# Altium footprint library PcbLib1.PcbLib: 40 footprints (part 2 of 3)
Each footprint in its own frame and in the unit in brackets; x right, y up, seen from the top. Pads: shape width x height; smd on the part's side, far side on the other; paste and mask are expansions set on the pad; w line width, h text height; cw(c..) or ccw(c..) is an arc to the next point about the centre after c.
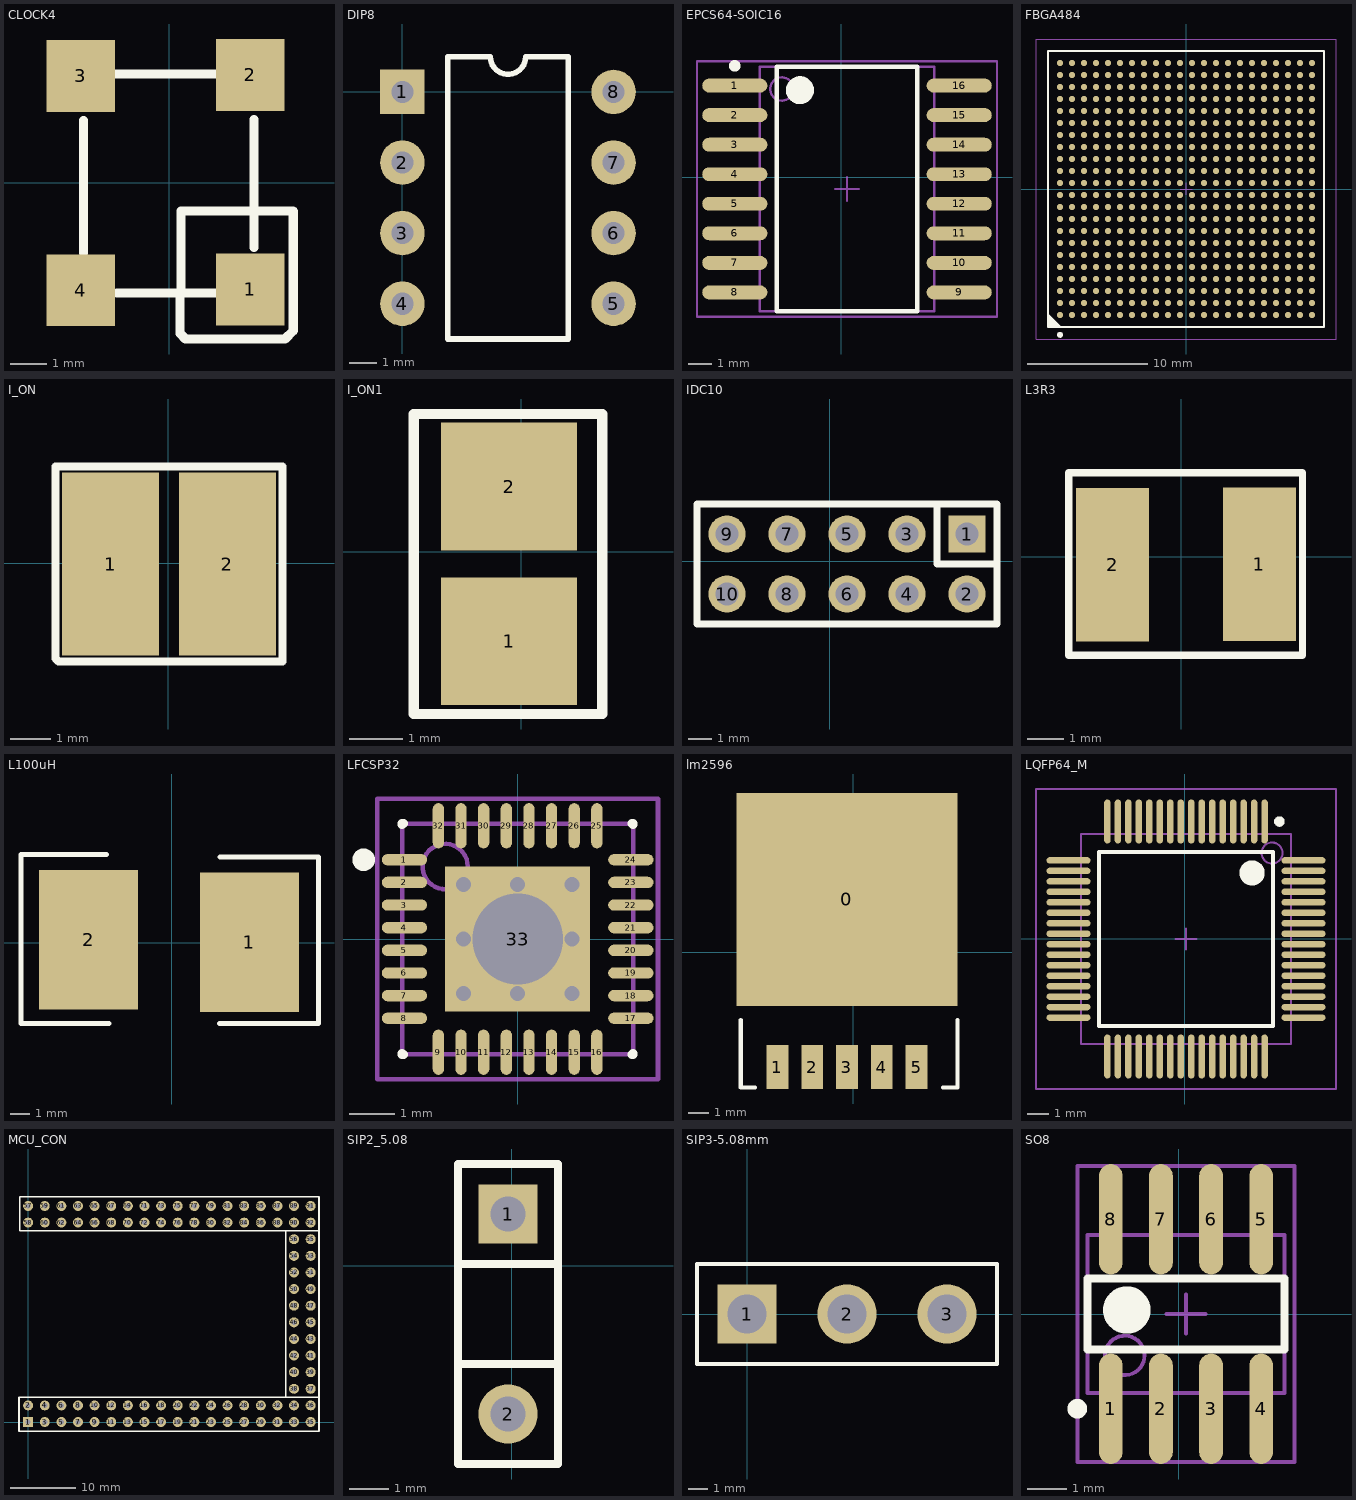
[diagram p1: the footprints below, top view; thin cyan lines are the x and y axes]

## CLOCK4 [mm]
pads (4):
  rect 1.905x2 smd: 1(2.263,-2.962) 2(2.263,3.007) 3(-2.461,2.981) 4(-2.461,-2.988)
Top Overlay:
  lines w0.254: -2.385,-1.946 -2.385,1.737 ; -1.483,3.032 -0.508,3.032 ; -1.457,-3.064 -1.191,-3.064 1.349,-3.064 ; -1.191,3.032 1.349,3.032 ; 0.305,-3.064 0.305,-4.191 0.457,-4.343 3.226,-4.343 3.454,-4.115 3.454,-0.787 3.445,-0.778 1.981,-0.778 ; 0.333,-3.064 0.333,-0.778 2.365,-0.778 ; 2.365,-1.794 2.365,1.762

## DIP8 [mm]
pads (8):
  rect 1.6x1.6 hole 0.8: 1(0,0)
  round 1.6 hole 0.8: 2(0,-2.54) 3(0,-5.08) 4(0,-7.62) 5(7.6,-7.62) 6(7.6,-5.08) 7(7.6,-2.54) 8(7.6,0)
Top Overlay:
  lines w0.2: 1.635,-8.89 1.635,1.27 3.165,1.27 ccw(c3.8,1.27) 4.435,1.27 5.965,1.27 5.965,-8.89 1.635,-8.89

## EPCS64-SOIC16 [mm]
pads (16):
  oval 2.8x0.6 smd: 1(-4.571,3.937) 2(-4.571,2.667) 3(-4.571,1.397) 4(-4.571,0.127) 5(-4.571,-1.143) 6(-4.571,-2.413) 7(-4.571,-3.683) 8(-4.571,-4.953) 9(5.079,-4.953) 10(5.079,-3.683) 11(5.079,-2.413) 12(5.079,-1.143) 13(5.079,0.127) 14(5.079,1.397) 15(5.079,2.667) 16(5.079,3.937)
Top Overlay:
  circle w0.6: c-1.771,3.742 r0.3
  circle w0.25: c-4.571,4.787 r0.125
  lines w0.2: -2.771,-5.758 3.279,-5.758 3.279,4.742 -2.771,4.742 -2.771,-5.758
Mechanical 13:
  circle w0.1: c-2.546,3.792 r0.5
  lines w0.1: -3.496,-5.758 4.004,-5.758 4.004,4.742 -3.496,4.742 -3.496,-5.758
Mechanical 15:
  lines w0.1: -0.246,-0.508 0.754,-0.508 ; 0.254,-1.008 0.254,-0.008 ; -6.196,-6.008 6.704,-6.008 6.704,4.992 -6.196,4.992 -6.196,-6.008
3D body: height 2.65, standoff 0.2, extent -3.496,-5.758 4.004,4.742

## FBGA484 [mm]
pads (484):
  round 0.5 smd: A1(-10.5,-10.5) A2(-10.5,-9.5) A3(-10.5,-8.5) A4(-10.5,-7.5) A5(-10.5,-6.5) A6(-10.5,-5.5) A7(-10.5,-4.5) A8(-10.5,-3.5) A9(-10.5,-2.5) A10(-10.5,-1.5) A11(-10.5,-0.5) A12(-10.5,0.5) A13(-10.5,1.5) A14(-10.5,2.5) A15(-10.5,3.5) A16(-10.5,4.5) A17(-10.5,5.5) A18(-10.5,6.5) A19(-10.5,7.5) A20(-10.5,8.5) A21(-10.5,9.5) A22(-10.5,10.5) AA1(9.5,-10.5) AA2(9.5,-9.5) AA3(9.5,-8.5) AA4(9.5,-7.5) AA5(9.5,-6.5) AA6(9.5,-5.5) AA7(9.5,-4.5) AA8(9.5,-3.5) AA9(9.5,-2.5) AA10(9.5,-1.5) AA11(9.5,-0.5) AA12(9.5,0.5) AA13(9.5,1.5) AA14(9.5,2.5) AA15(9.5,3.5) AA16(9.5,4.5) AA17(9.5,5.5) AA18(9.5,6.5) AA19(9.5,7.5) AA20(9.5,8.5) AA21(9.5,9.5) AA22(9.5,10.5) AB1(10.5,-10.5) AB2(10.5,-9.5) AB3(10.5,-8.5) AB4(10.5,-7.5) AB5(10.5,-6.5) AB6(10.5,-5.5) AB7(10.5,-4.5) AB8(10.5,-3.5) AB9(10.5,-2.5) AB10(10.5,-1.5) AB11(10.5,-0.5) AB12(10.5,0.5) AB13(10.5,1.5) AB14(10.5,2.5) AB15(10.5,3.5) AB16(10.5,4.5) AB17(10.5,5.5) AB18(10.5,6.5) AB19(10.5,7.5) AB20(10.5,8.5) AB21(10.5,9.5) AB22(10.5,10.5) B1(-9.5,-10.5) B2(-9.5,-9.5) B3(-9.5,-8.5) B4(-9.5,-7.5) B5(-9.5,-6.5) B6(-9.5,-5.5) B7(-9.5,-4.5) B8(-9.5,-3.5) B9(-9.5,-2.5) B10(-9.5,-1.5) B11(-9.5,-0.5) B12(-9.5,0.5) B13(-9.5,1.5) B14(-9.5,2.5) B15(-9.5,3.5) B16(-9.5,4.5) B17(-9.5,5.5) B18(-9.5,6.5) B19(-9.5,7.5) B20(-9.5,8.5) B21(-9.5,9.5) B22(-9.5,10.5) C1(-8.5,-10.5) C2(-8.5,-9.5) C3(-8.5,-8.5) C4(-8.5,-7.5) C5(-8.5,-6.5) C6(-8.5,-5.5) C7(-8.5,-4.5) C8(-8.5,-3.5) C9(-8.5,-2.5) C10(-8.5,-1.5) C11(-8.5,-0.5) C12(-8.5,0.5) C13(-8.5,1.5) C14(-8.5,2.5) C15(-8.5,3.5) C16(-8.5,4.5) C17(-8.5,5.5) C18(-8.5,6.5) C19(-8.5,7.5) C20(-8.5,8.5) C21(-8.5,9.5) C22(-8.5,10.5) D1(-7.5,-10.5) D2(-7.5,-9.5) D3(-7.5,-8.5) D4(-7.5,-7.5) D5(-7.5,-6.5) D6(-7.5,-5.5) D7(-7.5,-4.5) D8(-7.5,-3.5) D9(-7.5,-2.5) D10(-7.5,-1.5) D11(-7.5,-0.5) D12(-7.5,0.5) D13(-7.5,1.5) D14(-7.5,2.5) D15(-7.5,3.5) D16(-7.5,4.5) D17(-7.5,5.5) D18(-7.5,6.5) D19(-7.5,7.5) D20(-7.5,8.5) D21(-7.5,9.5) D22(-7.5,10.5) E1(-6.5,-10.5) E2(-6.5,-9.5) E3(-6.5,-8.5) E4(-6.5,-7.5) E5(-6.5,-6.5) E6(-6.5,-5.5) E7(-6.5,-4.5) E8(-6.5,-3.5) E9(-6.5,-2.5) E10(-6.5,-1.5) E11(-6.5,-0.5) E12(-6.5,0.5) E13(-6.5,1.5) E14(-6.5,2.5) E15(-6.5,3.5) E16(-6.5,4.5) E17(-6.5,5.5) E18(-6.5,6.5) E19(-6.5,7.5) E20(-6.5,8.5) E21(-6.5,9.5) E22(-6.5,10.5) F1(-5.5,-10.5) F2(-5.5,-9.5) F3(-5.5,-8.5) F4(-5.5,-7.5) F5(-5.5,-6.5) F6(-5.5,-5.5) F7(-5.5,-4.5) F8(-5.5,-3.5) F9(-5.5,-2.5) F10(-5.5,-1.5) F11(-5.5,-0.5) F12(-5.5,0.5) F13(-5.5,1.5) F14(-5.5,2.5) F15(-5.5,3.5) F16(-5.5,4.5) F17(-5.5,5.5) F18(-5.5,6.5) F19(-5.5,7.5) F20(-5.5,8.5) F21(-5.5,9.5) F22(-5.5,10.5) G1(-4.5,-10.5) G2(-4.5,-9.5) G3(-4.5,-8.5) G4(-4.5,-7.5) G5(-4.5,-6.5) G6(-4.5,-5.5) G7(-4.5,-4.5) G8(-4.5,-3.5) G9(-4.5,-2.5) G10(-4.5,-1.5) G11(-4.5,-0.5) G12(-4.5,0.5) G13(-4.5,1.5) G14(-4.5,2.5) G15(-4.5,3.5) G16(-4.5,4.5) G17(-4.5,5.5) G18(-4.5,6.5) G19(-4.5,7.5) G20(-4.5,8.5) G21(-4.5,9.5) G22(-4.5,10.5) H1(-3.5,-10.5) H2(-3.5,-9.5) H3(-3.5,-8.5) H4(-3.5,-7.5) H5(-3.5,-6.5) H6(-3.5,-5.5) H7(-3.5,-4.5) H8(-3.5,-3.5) H9(-3.5,-2.5) H10(-3.5,-1.5) H11(-3.5,-0.5) H12(-3.5,0.5) H13(-3.5,1.5) H14(-3.5,2.5) H15(-3.5,3.5) H16(-3.5,4.5) H17(-3.5,5.5) H18(-3.5,6.5) H19(-3.5,7.5) H20(-3.5,8.5) H21(-3.5,9.5) H22(-3.5,10.5) J1(-2.5,-10.5) J2(-2.5,-9.5) J3(-2.5,-8.5) J4(-2.5,-7.5) J5(-2.5,-6.5) J6(-2.5,-5.5) J7(-2.5,-4.5) J8(-2.5,-3.5) J9(-2.5,-2.5) J10(-2.5,-1.5) J11(-2.5,-0.5) J12(-2.5,0.5) J13(-2.5,1.5) J14(-2.5,2.5) J15(-2.5,3.5) J16(-2.5,4.5) J17(-2.5,5.5) J18(-2.5,6.5) J19(-2.5,7.5) J20(-2.5,8.5) J21(-2.5,9.5) J22(-2.5,10.5) K1(-1.5,-10.5) K2(-1.5,-9.5) K3(-1.5,-8.5) K4(-1.5,-7.5) K5(-1.5,-6.5) K6(-1.5,-5.5) K7(-1.5,-4.5) K8(-1.5,-3.5) K9(-1.5,-2.5) K10(-1.5,-1.5) K11(-1.5,-0.5) K12(-1.5,0.5) K13(-1.5,1.5) K14(-1.5,2.5) K15(-1.5,3.5) K16(-1.5,4.5) K17(-1.5,5.5) K18(-1.5,6.5) K19(-1.5,7.5) K20(-1.5,8.5) K21(-1.5,9.5) K22(-1.5,10.5) L1(-0.5,-10.5) L2(-0.5,-9.5) L3(-0.5,-8.5) L4(-0.5,-7.5) L5(-0.5,-6.5) L6(-0.5,-5.5) L7(-0.5,-4.5) L8(-0.5,-3.5) L9(-0.5,-2.5) L10(-0.5,-1.5) L11(-0.5,-0.5) L12(-0.5,0.5) L13(-0.5,1.5) L14(-0.5,2.5) L15(-0.5,3.5) L16(-0.5,4.5) L17(-0.5,5.5) L18(-0.5,6.5) L19(-0.5,7.5) L20(-0.5,8.5) L21(-0.5,9.5) L22(-0.5,10.5) M1(0.5,-10.5) M2(0.5,-9.5) M3(0.5,-8.5) M4(0.5,-7.5) M5(0.5,-6.5) M6(0.5,-5.5) M7(0.5,-4.5) M8(0.5,-3.5) M9(0.5,-2.5) M10(0.5,-1.5) M11(0.5,-0.5) M12(0.5,0.5) M13(0.5,1.5) M14(0.5,2.5) M15(0.5,3.5) M16(0.5,4.5) M17(0.5,5.5) M18(0.5,6.5) M19(0.5,7.5) M20(0.5,8.5) M21(0.5,9.5) M22(0.5,10.5) N1(1.5,-10.5) N2(1.5,-9.5) N3(1.5,-8.5) N4(1.5,-7.5) N5(1.5,-6.5) N6(1.5,-5.5) N7(1.5,-4.5) N8(1.5,-3.5) N9(1.5,-2.5) N10(1.5,-1.5) N11(1.5,-0.5) N12(1.5,0.5) N13(1.5,1.5) N14(1.5,2.5) N15(1.5,3.5) N16(1.5,4.5) N17(1.5,5.5) N18(1.5,6.5) N19(1.5,7.5) N20(1.5,8.5) N21(1.5,9.5) N22(1.5,10.5) P1(2.5,-10.5) P2(2.5,-9.5) P3(2.5,-8.5) P4(2.5,-7.5) P5(2.5,-6.5) P6(2.5,-5.5) P7(2.5,-4.5) P8(2.5,-3.5) P9(2.5,-2.5) P10(2.5,-1.5) P11(2.5,-0.5) P12(2.5,0.5) P13(2.5,1.5) P14(2.5,2.5) P15(2.5,3.5) P16(2.5,4.5) P17(2.5,5.5) P18(2.5,6.5) P19(2.5,7.5) P20(2.5,8.5) P21(2.5,9.5) P22(2.5,10.5) R1(3.5,-10.5) R2(3.5,-9.5) R3(3.5,-8.5) R4(3.5,-7.5) R5(3.5,-6.5) R6(3.5,-5.5) R7(3.5,-4.5) R8(3.5,-3.5) R9(3.5,-2.5) R10(3.5,-1.5) R11(3.5,-0.5) R12(3.5,0.5) R13(3.5,1.5) R14(3.5,2.5) R15(3.5,3.5) R16(3.5,4.5) R17(3.5,5.5) R18(3.5,6.5) R19(3.5,7.5) R20(3.5,8.5) R21(3.5,9.5) R22(3.5,10.5) T1(4.5,-10.5) T2(4.5,-9.5) T3(4.5,-8.5) T4(4.5,-7.5) T5(4.5,-6.5) T6(4.5,-5.5) T7(4.5,-4.5) T8(4.5,-3.5) T9(4.5,-2.5) T10(4.5,-1.5) T11(4.5,-0.5) T12(4.5,0.5) T13(4.5,1.5) T14(4.5,2.5) T15(4.5,3.5) T16(4.5,4.5) T17(4.5,5.5) T18(4.5,6.5) T19(4.5,7.5) T20(4.5,8.5) T21(4.5,9.5) T22(4.5,10.5) U1(5.5,-10.5) U2(5.5,-9.5) U3(5.5,-8.5) U4(5.5,-7.5) U5(5.5,-6.5) U6(5.5,-5.5) U7(5.5,-4.5) U8(5.5,-3.5) U9(5.5,-2.5) U10(5.5,-1.5) U11(5.5,-0.5) U12(5.5,0.5) U13(5.5,1.5) U14(5.5,2.5) U15(5.5,3.5) U16(5.5,4.5) U17(5.5,5.5) U18(5.5,6.5) U19(5.5,7.5) U20(5.5,8.5) U21(5.5,9.5) U22(5.5,10.5) V1(6.5,-10.5) V2(6.5,-9.5) V3(6.5,-8.5) V4(6.5,-7.5) V5(6.5,-6.5) V6(6.5,-5.5) V7(6.5,-4.5) V8(6.5,-3.5) V9(6.5,-2.5) V10(6.5,-1.5) V11(6.5,-0.5) V12(6.5,0.5) V13(6.5,1.5) V14(6.5,2.5) V15(6.5,3.5) V16(6.5,4.5) V17(6.5,5.5) V18(6.5,6.5) V19(6.5,7.5) V20(6.5,8.5) V21(6.5,9.5) V22(6.5,10.5) W1(7.5,-10.5) W2(7.5,-9.5) W3(7.5,-8.5) W4(7.5,-7.5) W5(7.5,-6.5) W6(7.5,-5.5) W7(7.5,-4.5) W8(7.5,-3.5) W9(7.5,-2.5) W10(7.5,-1.5) W11(7.5,-0.5) W12(7.5,0.5) W13(7.5,1.5) W14(7.5,2.5) W15(7.5,3.5) W16(7.5,4.5) W17(7.5,5.5) W18(7.5,6.5) W19(7.5,7.5) W20(7.5,8.5) W21(7.5,9.5) W22(7.5,10.5) Y1(8.5,-10.5) Y2(8.5,-9.5) Y3(8.5,-8.5) Y4(8.5,-7.5) Y5(8.5,-6.5) Y6(8.5,-5.5) Y7(8.5,-4.5) Y8(8.5,-3.5) Y9(8.5,-2.5) Y10(8.5,-1.5) Y11(8.5,-0.5) Y12(8.5,0.5) Y13(8.5,1.5) Y14(8.5,2.5) Y15(8.5,3.5) Y16(8.5,4.5) Y17(8.5,5.5) Y18(8.5,6.5) Y19(8.5,7.5) Y20(8.5,8.5) Y21(8.5,9.5) Y22(8.5,10.5)
Top Overlay:
  circle w0.25: c-10.5,-12.15 r0.125
  region: -11.5,-10.5 -10.5,-11.5 -11.5,-11.5
  lines w0.2: -11.5,-10.5 -10.5,-11.5 ; -11.5,-11.5 11.5,-11.5 11.5,11.5 -11.5,11.5 -11.5,-11.5
Mechanical 13:
  lines w0.1: -11.5,-11.5 11.5,-11.5 11.5,11.5 -11.5,11.5 -11.5,-11.5
Mechanical 15:
  lines w0.1: -0.5,0 0.5,0 ; 0,-0.5 0,0.5 ; -12.5,-12.5 12.5,-12.5 12.5,12.5 -12.5,12.5 -12.5,-12.5
3D body: height 2.6, standoff 0, extent -11.5,-11.5 11.5,11.5

## I_ON [mil]
pads (2):
  rect 95x180 smd: 1(-56.67,-0.77) 2(58.29,-0.77)
Top Overlay:
  lines w7.8: -110.77,-93.72 -110.77,95.28 112.23,95.28 112.23,-96.72 -107.77,-96.72 -110.77,-93.72

## I_ON1 [mil]
pads (2):
  rect 101.26x95 smd: 1(-9.23,-66.67) 2(-9.23,48.29)
Top Overlay:
  lines w7.8: -80,-120.77 -80,102.23 60,102.23 60,-120.77 -80,-120.77

## IDC10 [mil]
pads (10):
  rect 62x62 hole 38: 1(229,45)
  round 62 hole 38: 2(229,-55) 3(129,45) 4(129,-55) 5(29,45) 6(29,-55) 7(-71,45) 8(-71,-55) 9(-171,45) 10(-171,-55)
Top Overlay:
  lines w12: 179,95 179,-5 279,-5 ; -221,-105 -221,95 279,95 279,-105 -221,-105

## L3R3 [mm]
pads (2):
  rect 2x4.2 smd: 1(2.142,-0.213) 2(-1.878,-0.223)
Top Overlay:
  lines w0.2: -3.078,-2.703 3.322,-2.703 3.322,-0.203 3.322,2.297 -3.078,2.297 -3.078,-2.703

## L100uH [mm]
pads (2):
  rect 5x7 smd: 1(3.912,0.025) 2(-4.184,0.152)
Top Overlay:
  lines w0.254: -3.277,4.445 -7.595,4.445 -7.595,-4.064 -3.15,-4.064 ; 2.413,-4.064 7.391,-4.064 7.391,4.318 2.438,4.318

## LFCSP32 [mm] "QFN, 32-Leads, Body 5.1x5.1mm (max), Pitch 0.50mm, IPC Medium Density"
height 0.75
pads (33):
  oval 1x0.25 smd: 1(-2.5,1.75) 2(-2.5,1.25) 3(-2.5,0.75) 4(-2.5,0.25) 5(-2.5,-0.25) 6(-2.5,-0.75) 7(-2.5,-1.25) 8(-2.5,-1.75) 17(2.5,-1.75) 18(2.5,-1.25) 19(2.5,-0.75) 20(2.5,-0.25) 21(2.5,0.25) 22(2.5,0.75) 23(2.5,1.25) 24(2.5,1.75)
  oval 0.25x1 smd: 9(-1.75,-2.5) 10(-1.25,-2.5) 11(-0.75,-2.5) 12(-0.25,-2.5) 13(0.25,-2.5) 14(0.75,-2.5) 15(1.25,-2.5) 16(1.75,-2.5) 25(1.75,2.5) 26(1.25,2.5) 27(0.75,2.5) 28(0.25,2.5) 29(-0.25,2.5) 30(-0.75,2.5) 31(-1.25,2.5) 32(-1.75,2.5)
  rect 3.2x3.2 smd: 33(0,0)
via -1.2,1.2 diameter 0.66 hole 0.33
via 0,1.2 diameter 0.66 hole 0.33
via 1.2,1.2 diameter 0.66 hole 0.33
via -1.2,0 diameter 0.66 hole 0.33
via 0,0 diameter 3 hole 2
via 1.2,0 diameter 0.66 hole 0.33
via -1.2,-1.2 diameter 0.66 hole 0.33
via 0,-1.2 diameter 0.66 hole 0.33
via 1.2,-1.2 diameter 0.66 hole 0.33
Top Overlay:
  circle w0.25: c-3.4,1.75 r0.125
  lines w0.2: -2.55,-2.525 -2.55,-2.55 -2.525,-2.55 ; -2.55,2.525 -2.55,2.55 -2.525,2.55 ; 2.525,-2.55 2.55,-2.55 2.55,-2.525 ; 2.525,2.55 2.55,2.55 2.55,2.525
Mechanical 13:
  circle w0.1: c-1.6,1.6 r0.5
  lines w0.1: -2.55,-2.55 -2.55,2.55 2.55,2.55 2.55,-2.55 -2.55,-2.55
Mechanical 15:
  lines w0.1: -0.5,0 0.5,0 ; 0,-0.5 0,0.5 ; -3.1,-3.1 -3.1,3.1 3.1,3.1 3.1,-3.1 -3.1,-3.1
3D body: height 0.75, standoff 0.03, extent -2.55,-2.55 2.55,2.55

## lm2596 [mm]
pads (6):
  rect 10.8x10.41 smd: 0(-0.301,2.587)
  rect 1.07x2.15 smd: 1(-3.701,-5.613) 2(-2.001,-5.613) 3(-0.301,-5.613) 4(1.399,-5.613) 5(3.099,-5.613)
Top Overlay:
  lines w0.203: -5.501,-3.313 -5.501,-6.613 -4.801,-6.613 ; 4.399,-6.613 5.099,-6.613 5.099,-3.313

## LQFP64_M [mm]
pads (64):
  oval 0.3x2.1 smd: 1(3.81,5.588) 2(3.31,5.588) 3(2.81,5.588) 4(2.31,5.588) 5(1.81,5.588) 6(1.31,5.588) 7(0.81,5.588) 8(0.31,5.588) 9(-0.19,5.588) 10(-0.69,5.588) 11(-1.19,5.588) 12(-1.69,5.588) 13(-2.19,5.588) 14(-2.69,5.588) 15(-3.19,5.588) 16(-3.69,5.588) 33(-3.69,-5.612) 34(-3.19,-5.612) 35(-2.69,-5.612) 36(-2.19,-5.612) 37(-1.69,-5.612) 38(-1.19,-5.612) 39(-0.69,-5.612) 40(-0.19,-5.612) 41(0.31,-5.612) 42(0.81,-5.612) 43(1.31,-5.612) 44(1.81,-5.612) 45(2.31,-5.612) 46(2.81,-5.612) 47(3.31,-5.612) 48(3.81,-5.612)
  oval 2.1x0.3 smd: 17(-5.54,3.738) 18(-5.54,3.238) 19(-5.54,2.738) 20(-5.54,2.238) 21(-5.54,1.738) 22(-5.54,1.238) 23(-5.54,0.738) 24(-5.54,0.238) 25(-5.54,-0.262) 26(-5.54,-0.762) 27(-5.54,-1.262) 28(-5.54,-1.762) 29(-5.54,-2.262) 30(-5.54,-2.762) 31(-5.54,-3.262) 32(-5.54,-3.762) 49(5.66,-3.762) 50(5.66,-3.262) 51(5.66,-2.762) 52(5.66,-2.262) 53(5.66,-1.762) 54(5.66,-1.262) 55(5.66,-0.762) 56(5.66,-0.262) 57(5.66,0.238) 58(5.66,0.738) 59(5.66,1.238) 60(5.66,1.738) 61(5.66,2.238) 62(5.66,2.738) 63(5.66,3.238) 64(5.66,3.738)
Top Overlay:
  circle w0.25: c4.51,5.588 r0.125
  circle w0.6: c3.21,3.138 r0.3
  lines w0.2: -4.09,-4.162 4.21,-4.162 4.21,4.138 -4.09,4.138 -4.09,-4.162
Mechanical 13:
  circle w0.1: c4.16,4.088 r0.5
  lines w0.1: -4.94,-5.012 5.06,-5.012 5.06,4.988 -4.94,4.988 -4.94,-5.012
Mechanical 15:
  lines w0.1: -0.44,-0.012 0.56,-0.012 ; 0.06,-0.512 0.06,0.488 ; -7.09,-7.162 7.21,-7.162 7.21,7.138 -7.09,7.138 -7.09,-7.162

## MCU_CON [mil] "Connector for STM32F407VET6 mini Borad"
pads (92):
  rect 60x60 hole 30 square: 1(0,0)
  round 60 hole 30: 2(0,100) 3(100,0) 4(100,100) 5(200,0) 6(200,100) 7(300,0) 8(300,100) 9(400,0) 10(400,100) 11(500,0) 12(500,100) 13(600,0) 14(600,100) 15(700,0) 16(700,100) 17(800,0) 18(800,100) 19(900,0) 20(900,100) 21(1000,0) 22(1000,100) 23(1100,0) 24(1100,100) 25(1200,0) 26(1200,100) 27(1300,0) 28(1300,100) 29(1400,0) 30(1400,100) 31(1500,0) 32(1500,100) 33(1600,0) 34(1600,100) 35(1700,0) 36(1700,100) 37(1700,200) 38(1600,200) 39(1700,300) 40(1600,300) 41(1700,400) 42(1600,400) 43(1700,500) 44(1600,500) 45(1700,600) 46(1600,600) 47(1700,700) 48(1600,700) 49(1700,800) 50(1600,800) 51(1700,900) 52(1600,900) 53(1700,1000) 54(1600,1000) 55(1700,1100) 56(1600,1100) 57(0,1300) 58(0,1200) 59(100,1300) 60(100,1200) 61(200,1300) 62(200,1200) 63(300,1300) 64(300,1200) 65(400,1300) 66(400,1200) 67(500,1300) 68(500,1200) 69(600,1300) 70(600,1200) 71(700,1300) 72(700,1200) 73(800,1300) 74(800,1200) 75(900,1300) 76(900,1200) 77(1000,1300) 78(1000,1200) 79(1100,1300) 80(1100,1200) 81(1200,1300) 82(1200,1200) 83(1300,1300) 84(1300,1200) 85(1400,1300) 86(1400,1200) 87(1500,1300) 88(1500,1200) 89(1600,1300) 90(1600,1200) 91(1700,1300) 92(1700,1200)
Top Overlay:
  lines w10: 1550,150 1550,1150 ; 1750,150 -55,150 -55,-45 -55,-55 1750,-55 1750,1355 -50,1355 -50,1150 1750,1150

## SIP2_5.08 [mm]
pads (2):
  rect 1.5x1.5 hole 0.9: 1(-0.1,1.32)
  round 1.5 hole 0.9: 2(-0.1,-3.76)
Top Overlay:
  lines w0.2: -1.37,-5.03 -1.37,0.05 1.17,0.05 1.17,-5.03 -1.37,-5.03 ; -1.37,-2.49 -1.37,2.59 1.17,2.59 1.17,-2.49 -1.37,-2.49

## SIP3-5.08mm [mm]
pads (3):
  rect 3x3 hole 2: 1(0,0)
  round 3 hole 2: 2(5.08,0) 3(10.16,0)
Top Overlay:
  lines w0.2: -1.27,-1.27 -1.27,1.27
  lines w0.203: -2.54,-2.54 12.7,-2.54 12.7,2.54 -2.54,2.54 -2.54,-2.54

## SO8 [mm]
pads (8):
  oval 0.6x2.8 smd: 1(-1.727,-2.4) 2(-0.457,-2.4) 3(0.813,-2.4) 4(2.083,-2.4) 5(2.083,2.4) 6(0.813,2.4) 7(-0.457,2.4) 8(-1.727,2.4)
Top Overlay:
  circle w0.25: c-2.577,-2.4 r0.125
  circle w0.6: c-1.322,0.1 r0.3
  lines w0.2: -2.322,-0.9 2.678,-0.9 2.678,0.9 -2.322,0.9 -2.322,-0.9
Mechanical 13:
  circle w0.1: c-1.372,-1.05 r0.5
  lines w0.1: -2.322,-2 2.678,-2 2.678,2 -2.322,2 -2.322,-2
Mechanical 15:
  lines w0.1: -0.322,0 0.678,0 ; 0.178,-0.5 0.178,0.5 ; -2.572,-3.75 2.928,-3.75 2.928,3.75 -2.572,3.75 -2.572,-3.75
3D body: height 1.7, standoff 0.17, extent -2.322,-2 2.678,2